# Altium schematic symbol library LiTHeEl kontakter.SchLib: 1 symbol
Pins are listed as number, name and electrical type; pins without a type are passive.

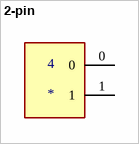
[diagram p0: symbol 2-pin]

## 2-pin
designator 4
footprint 2-PIN
pins: 0, 1